# EAGLE library part RJ45 (library kwoo)
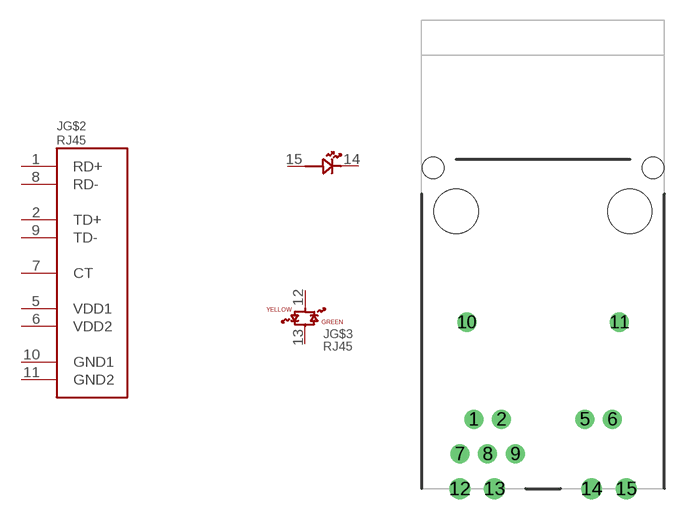
[diagram p13: symbol with the pads of RJ45; footprint RJ45]

Designator prefix J; gates G$1=LED G$2=RJ45 G$3=RJ45_LIGHT1

## RJ45  [RJ45]
1  G$2:RD+
2  G$2:TD+
5  G$2:VDD1
6  G$2:VDD2
7  G$2:CT
8  G$2:RD-
9  G$2:TD-
10  G$2:GND1
11  G$2:GND2
12  G$3:YELLOW
13  G$3:GREEN
14  G$1:LED-
15  G$1:LED+

## Footprint RJ45 (pad centres in mm)
drill 0.889 round: 1 -5.08,-15.24; 2 -3.048,-15.24; 5 3.048,-15.24; 6 5.08,-15.24; 7 -6.096,-17.78; 8 -4.064,-17.78; 9 -2.032,-17.78; 10 -5.588,-8.128; 11 5.588,-8.128
drill 1.016 round: 12 -6.096,-20.32; 13 -3.556,-20.32; 14 3.556,-20.32; 15 6.096,-20.32
hole 3.251 at 6.35,0
hole 3.251 at -6.35,0
hole 1.575 at 8.065,3.175
hole 1.575 at -8.065,3.175